# EAGLE library part 2059-303/998-403 (library con-wago_2059)
Serie 2059, SMD-Leiterplattenklemme im Gurt 3-polig / Series 2059, SMD Terminal block in tape-and-reel packing 3-pole Polzahl / Pole No.: 3 Rastermaß / Pitch: 3 mm Bemessungsspannung / Rated Voltage: 160 V Nennstrom / Nominal Current: 3 A Leiterquerschnitt / Conductor Size: 0.14 - 0.34 mm2 Anschlusstechnik / Connection Technology: PUSH WIRE® Leitereinführung (zur Platine) / Conductor entry angle (to PCB): 0 ° Farbe / Color: weiß / weiß Stand: 01.01.2014. Die jeweils aktuellen Daten zu diesem Artikel finden Sie in unserem Produktkatalog, den Sie unter www.wago.com einsehen können. As of: 01/01/2014. Please find the newest data for this article in our product catalogue, which can be viewed under www.wago.com.
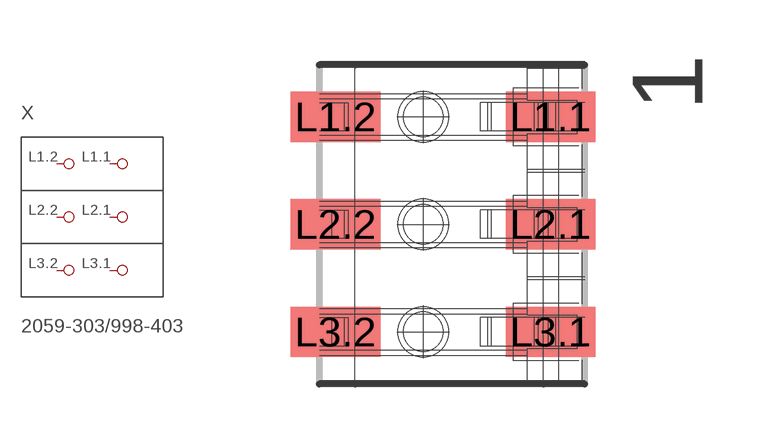
[diagram p0: symbol with the pads of P-2059-303/998-403; footprint P-2059-303/998-403]

Designator prefix X

## 2059-303/998-403  [P-2059-303/998-403]
L1.1  P1.1
L1.2  P1.2
L2.1  P2.1
L2.2  P2.2
L3.1  P3.1
L3.2  P3.2

## Footprint P-2059-303/998-403 (pad centres in mm)
smd 2.5 x 1.4: L1.1 2.975,3; L1.2 -3.025,3; L2.1 2.975,0; L2.2 -3.025,0; L3.1 2.975,-3; L3.2 -3.025,-3